# Altium schematic symbol library SCH - POWER - SWITCHMODE - TI TPS65150_RGE_24.SchLib: 1 symbol
Pins are listed as number, name and electrical type; pins without a type are passive.

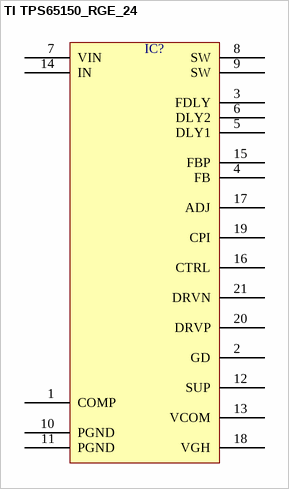
[diagram p0: symbol TI TPS65150_RGE_24]

## TI TPS65150_RGE_24
designator IC?  (value not drawn)
pins: 1 COMP, 2 GD, 3 FDLY, 4 FB, 5 DLY1, 6 DLY2, 7 VIN, 8 SW, 9 SW, 10 PGND, 11 PGND, 12 SUP, 13 VCOM, 14 IN, 15 FBP, 16 CTRL, 17 ADJ, 18 VGH, 19 CPI, 20 DRVP, 21 DRVN